# EAGLE library part CY8C52 (library we-chip)
Cypress PSoC 5LP ARM Cortex-M3 Microcontroller CY8C5268... - 67MHz, 256KB Flash, 64KB RAM CY8C5288... - 80MHz, 256KB Flash, 64KB RAM
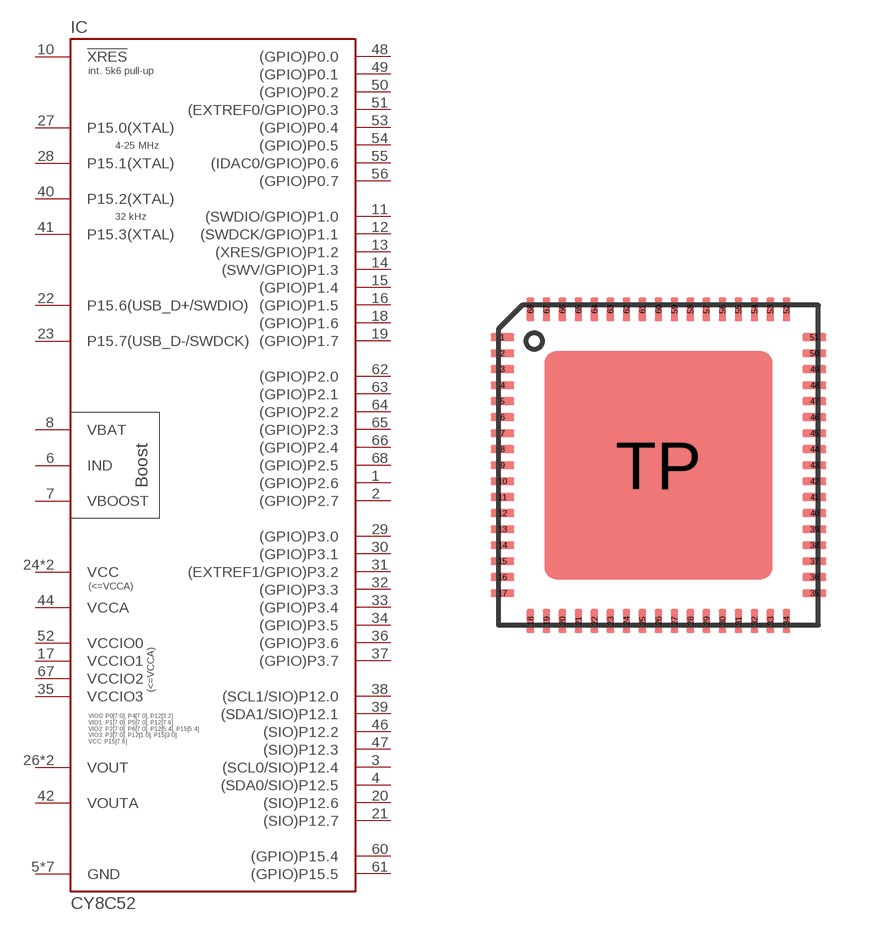
[diagram p53: symbol with the pads of QFN68-PAD; footprint QFN68-PAD]

Designator prefix IC

## CY8C5288LTI-LP  [QFN68-PAD]
1  (GPIO)P2.6
2  (GPIO)P2.7
3  (SCL0/SIO)P12.4
4  (SDA0/SIO)P12.5
5  GND  pwr
6  IND  pas
7  VBOOST  pwr
8  VBAT  pwr
9  GND  pwr
10  !XRES
11  (SWDIO/GPIO)P1.0
12  (SWDCK/GPIO)P1.1
13  (XRES/GPIO)P1.2
14  (SWV/GPIO)P1.3
15  (GPIO)P1.4
16  (GPIO)P1.5
17  VCCIO1  pwr
18  (GPIO)P1.6
19  (GPIO)P1.7
20  (SIO)P12.6
21  (SIO)P12.7
22  P15.6(USB_D+/SWDIO)
23  P15.7(USB_D-/SWDCK)
24  VCC  pwr
25  GND  pwr
26  VOUT  pwr
27  P15.0(XTAL)
28  P15.1(XTAL)
29  (GPIO)P3.0
30  (GPIO)P3.1
31  (EXTREF1/GPIO)P3.2
32  (GPIO)P3.3
33  (GPIO)P3.4
34  (GPIO)P3.5
35  VCCIO3  pwr
36  (GPIO)P3.6
37  (GPIO)P3.7
38  (SCL1/SIO)P12.0
39  (SDA1/SIO)P12.1
40  P15.2(XTAL)
41  P15.3(XTAL)
42  VOUTA  pwr
43  GND  pwr
44  VCCA  pwr
45  GND  pwr
46  (SIO)P12.2
47  (SIO)P12.3
48  (GPIO)P0.0
49  (GPIO)P0.1
50  (GPIO)P0.2
51  (EXTREF0/GPIO)P0.3
52  VCCIO0  pwr
53  (GPIO)P0.4
54  (GPIO)P0.5
55  (IDAC0/GPIO)P0.6
56  (GPIO)P0.7
57  VOUT  pwr
58  GND  pwr
59  VCC  pwr
60  (GPIO)P15.4
61  (GPIO)P15.5
62  (GPIO)P2.0
63  (GPIO)P2.1
64  (GPIO)P2.2
65  (GPIO)P2.3
66  (GPIO)P2.4
67  VCCIO2  pwr
68  (GPIO)P2.5
TP  GND  pwr

## Footprint QFN68-PAD (pad centres in mm)
smd 0.6 x 0.2: 1 -3.9,3.2; 2 -3.9,2.8; 3 -3.9,2.4; 4 -3.9,2; 5 -3.9,1.6; 6 -3.9,1.2; 7 -3.9,0.8; 8 -3.9,0.4; 9 -3.9,0; 10 -3.9,-0.4; 11 -3.9,-0.8; 12 -3.9,-1.2; 13 -3.9,-1.6; 14 -3.9,-2; 15 -3.9,-2.4; 16 -3.9,-2.8; 17 -3.9,-3.2; 35 3.9,-3.2; 36 3.9,-2.8; 37 3.9,-2.4; 38 3.9,-2; 39 3.9,-1.6; 40 3.9,-1.2; 41 3.9,-0.8; 42 3.9,-0.4; 43 3.9,0; 44 3.9,0.4; 45 3.9,0.8; 46 3.9,1.2; 47 3.9,1.6; 48 3.9,2; 49 3.9,2.4; 50 3.9,2.8; 51 3.9,3.2
smd 0.2 x 0.6: 18 -3.2,-3.9; 19 -2.8,-3.9; 20 -2.4,-3.9; 21 -2,-3.9; 22 -1.6,-3.9; 23 -1.2,-3.9; 24 -0.8,-3.9; 25 -0.4,-3.9; 26 0,-3.9; 27 0.4,-3.9; 28 0.8,-3.9; 29 1.2,-3.9; 30 1.6,-3.9; 31 2,-3.9; 32 2.4,-3.9; 33 2.8,-3.9; 34 3.2,-3.9; 52 3.2,3.9; 53 2.8,3.9; 54 2.4,3.9; 55 2,3.9; 56 1.6,3.9; 57 1.2,3.9; 58 0.8,3.9; 59 0.4,3.9; 60 0,3.9; 61 -0.4,3.9; 62 -0.8,3.9; 63 -1.2,3.9; 64 -1.6,3.9; 65 -2,3.9; 66 -2.4,3.9; 67 -2.8,3.9; 68 -3.2,3.9
smd 5.7 x 5.7: TP 0,0